# Altium schematic symbol library PINHEADER-4x1.Schlib: 1 symbol
Pins are listed as number, name and electrical type; pins without a type are passive.

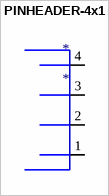
[diagram p0: symbol PINHEADER-4x1]

## PINHEADER-4x1
designator *
pins: 1, 2, 3, 4